# Altium footprint library SOT-23-5_L2.9-W1.6-P0.95-LS2.8-BR.PcbLib: 1 footprints
Each footprint in its own frame and in the unit in brackets; x right, y up, seen from the top. Pads: shape width x height; smd on the part's side, far side on the other; paste and mask are expansions set on the pad; w line width, h text height; cw(c..) or ccw(c..) is an arc to the next point about the centre after c.
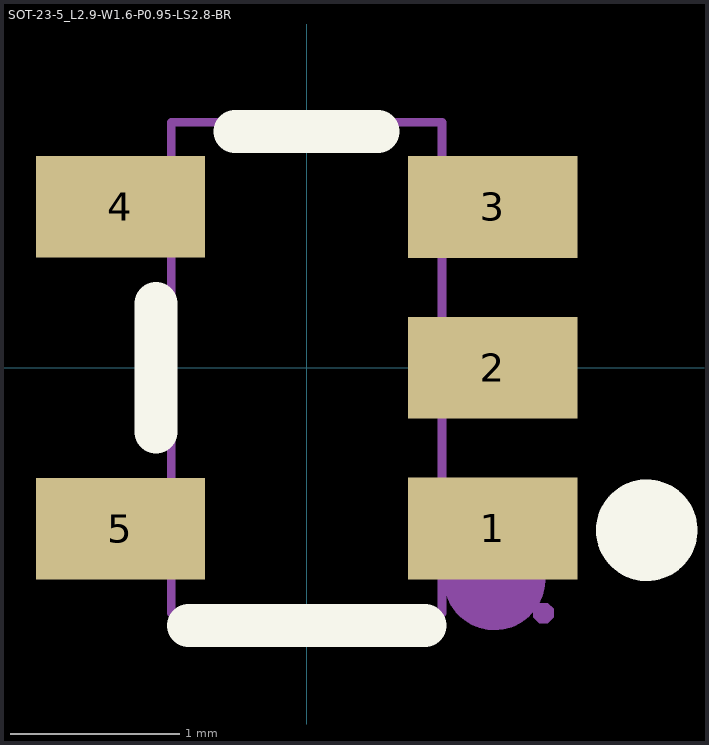
[diagram p0: the footprint, top view; thin cyan lines are the x and y axes]

## SOT-23-5_L2.9-W1.6-P0.95-LS2.8-BR [mm]
pads (5):
  rect 1x0.6 smd paste+0 mask+0.05: 1(1.1,-0.95) 2(1.1,0) 3(1.1,0.95) 4(-1.1,0.95) 5(-1.1,-0.95)
Top Overlay:
  circle w0.3: c2.01,-0.96 r0.15
  lines w0.254: -0.889,-0.381 -0.889,0.381 ; -0.699,-1.524 0.698,-1.524 ; -0.422,1.397 0.422,1.397
Mechanical 2:
  circle w0.3: c1.11,-1.25 r0.15
Mechanical 6:
  lines w0.051: -0.8,-1.45 -0.8,1.45 0.8,1.45 0.8,-1.45 -0.8,-1.45
Mechanical 7:
  region: 0.96,-0.2 0.79,-0.2 0.79,0.2 0.96,0.2
  region: 0.96,0.75 0.79,0.75 0.79,1.15 0.96,1.15
  region: 0.96,-1.15 0.79,-1.15 0.79,-0.75 0.96,-0.75
  region: -0.79,0.75 -0.96,0.75 -0.96,1.15 -0.79,1.15
  region: -0.79,-1.15 -0.96,-1.15 -0.96,-0.75 -0.79,-0.75
Mechanical 8:
  region: 1.46,-1.45 1.46,-1.475 1.425,-1.51 1.375,-1.51 1.34,-1.475 1.34,-1.45 1.34,-1.425 1.375,-1.39 1.425,-1.39 1.46,-1.425 1.46,-1.45
Mechanical 9:
  region: 1.4,-0.2 0.95,-0.2 0.95,0.2 1.4,0.2
  region: 1.4,0.75 0.95,0.75 0.95,1.15 1.4,1.15
  region: 1.4,-1.15 0.95,-1.15 0.95,-0.75 1.4,-0.75
  region: -0.95,0.75 -1.4,0.75 -1.4,1.15 -0.95,1.15
  region: -0.95,-1.15 -1.4,-1.15 -1.4,-0.75 -0.95,-0.75